# Altium footprint library PcbLib.PcbLib: 1 footprints
Each footprint in its own frame and in the unit in brackets; x right, y up, seen from the top. Pads: shape width x height; smd on the part's side, far side on the other; paste and mask are expansions set on the pad; w line width, h text height; cw(c..) or ccw(c..) is an arc to the next point about the centre after c.
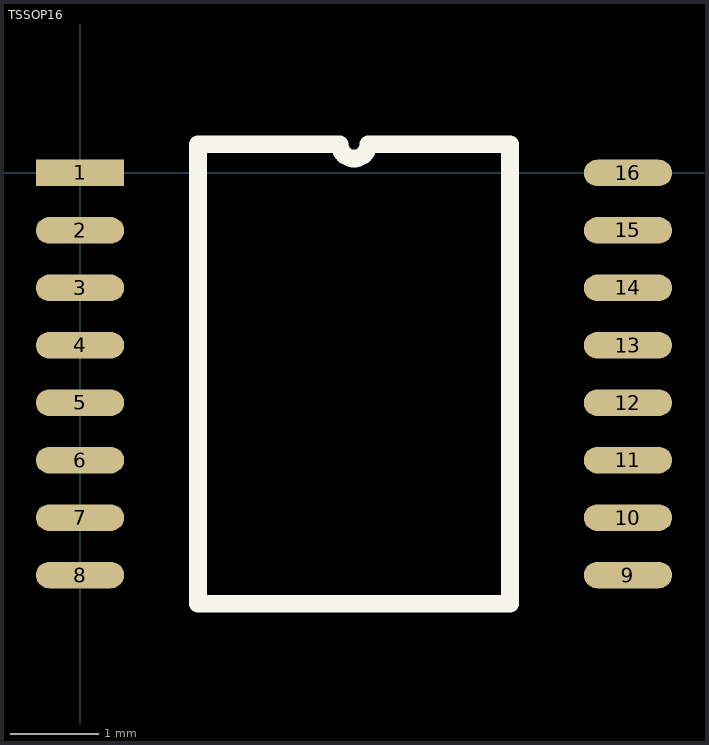
[diagram p0: the footprint, top view; thin cyan lines are the x and y axes]

## TSSOP16 [mm]
height 1.2
pads (16):
  rect 1x0.3 smd: 1(0,0)
  oval 1x0.3 smd: 2(0,-0.65) 3(0,-1.3) 4(0,-1.95) 5(0,-2.6) 6(0,-3.25) 7(0,-3.9) 8(0,-4.55) 9(6.2,-4.55) 10(6.2,-3.9) 11(6.2,-3.25) 12(6.2,-2.6) 13(6.2,-1.95) 14(6.2,-1.3) 15(6.2,-0.65) 16(6.2,0)
Top Overlay:
  lines w0.2: 1.335,-4.875 1.335,0.325 2.937,0.325 ccw(c3.1,0.325) 3.262,0.325 4.865,0.325 4.865,-4.875 1.335,-4.875